# Altium footprint library Dual-In-Line Package.PcbLib: 124 footprints (part 2 of 8)
Each footprint in its own frame and in the unit in brackets; x right, y up, seen from the top. Pads: shape width x height; smd on the part's side, far side on the other; paste and mask are expansions set on the pad; w line width, h text height; cw(c..) or ccw(c..) is an arc to the next point about the centre after c.
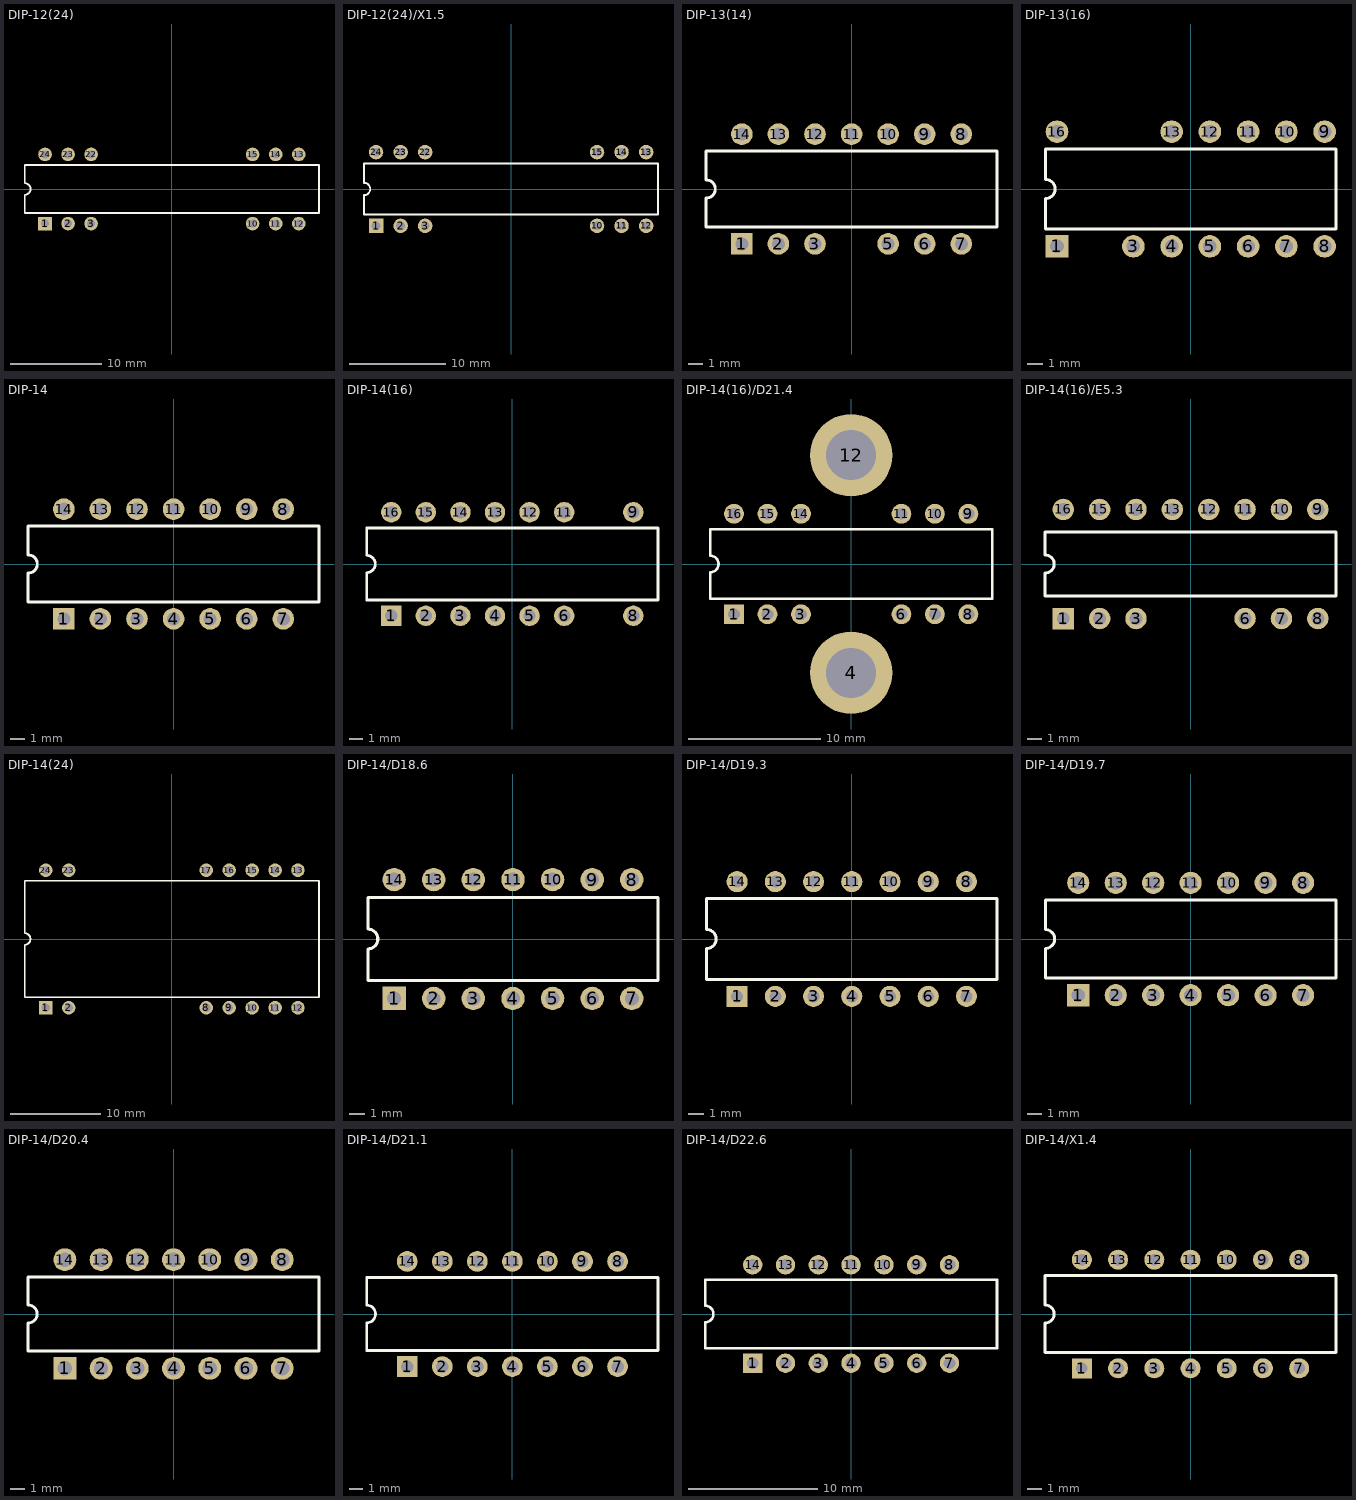
[diagram p1: the footprints below, top view; thin cyan lines are the x and y axes]

## DIP-12(24) [mm]
pads (12):
  rect 1.5x1.5 hole 0.9: 1(-13.97,-3.81)
  round 1.5 hole 0.9: 2(-11.43,-3.81) 3(-8.89,-3.81) 10(8.89,-3.81) 11(11.43,-3.81) 12(13.97,-3.81) 13(13.97,3.81) 14(11.43,3.81) 15(8.89,3.81) 22(-8.89,3.81) 23(-11.43,3.81) 24(-13.97,3.81)
Top Overlay:
  lines w0.2: -16.2,-2.65 16.2,-2.65 16.2,2.65 -16.2,2.65 -16.2,0.635 cw(c-16.2,0) -16.2,-0.635 -16.2,-2.65

## DIP-12(24)/X1.5 [mm]
pads (12):
  rect 1.5x1.5 hole 0.9: 1(-13.97,-3.81)
  round 1.5 hole 0.9: 2(-11.43,-3.81) 3(-8.89,-3.81) 10(8.89,-3.81) 11(11.43,-3.81) 12(13.97,-3.81) 13(13.97,3.81) 14(11.43,3.81) 15(8.89,3.81) 22(-8.89,3.81) 23(-11.43,3.81) 24(-13.97,3.81)
Top Overlay:
  lines w0.2: -15.2,-2.65 -15.2,-0.635 ccw(c-15.2,0) -15.2,0.635 -15.2,2.65 15.2,2.65 15.2,-2.65 -15.2,-2.65

## DIP-13(14) [mm]
pads (13):
  rect 1.5x1.5 hole 0.9: 1(-7.62,-3.81)
  round 1.5 hole 0.9: 2(-5.08,-3.81) 3(-2.54,-3.81) 5(2.54,-3.81) 6(5.08,-3.81) 7(7.62,-3.81) 8(7.62,3.81) 9(5.08,3.81) 10(2.54,3.81) 11(0,3.81) 12(-2.54,3.81) 13(-5.08,3.81) 14(-7.62,3.81)
Top Overlay:
  lines w0.2: -10.1,-2.65 10.1,-2.65 10.1,2.65 -10.1,2.65 -10.1,0.635 cw(c-10.1,0) -10.1,-0.635 -10.1,-2.65

## DIP-13(16) [mm]
pads (13):
  rect 1.5x1.5 hole 0.9: 1(-8.89,-3.81)
  round 1.5 hole 0.9: 3(-3.81,-3.81) 4(-1.27,-3.81) 5(1.27,-3.81) 6(3.81,-3.81) 7(6.35,-3.81) 8(8.89,-3.81) 9(8.89,3.81) 10(6.35,3.81) 11(3.81,3.81) 12(1.27,3.81) 13(-1.27,3.81) 16(-8.89,3.81)
Top Overlay:
  lines w0.2: -9.65,-2.65 9.65,-2.65 9.65,2.65 -9.65,2.65 -9.65,0.635 cw(c-9.65,0) -9.65,-0.635 -9.65,-2.65

## DIP-14 [mm]
pads (14):
  rect 1.5x1.5 hole 0.9: 1(-7.62,-3.81)
  round 1.5 hole 0.9: 2(-5.08,-3.81) 3(-2.54,-3.81) 4(0,-3.81) 5(2.54,-3.81) 6(5.08,-3.81) 7(7.62,-3.81) 8(7.62,3.81) 9(5.08,3.81) 10(2.54,3.81) 11(0,3.81) 12(-2.54,3.81) 13(-5.08,3.81) 14(-7.62,3.81)
Top Overlay:
  lines w0.2: -10.1,-2.65 10.1,-2.65 10.1,2.65 -10.1,2.65 -10.1,0.635 cw(c-10.1,0) -10.1,-0.635 -10.1,-2.65

## DIP-14(16) [mm]
pads (14):
  rect 1.5x1.5 hole 0.9: 1(-8.89,-3.81)
  round 1.5 hole 0.9: 2(-6.35,-3.81) 3(-3.81,-3.81) 4(-1.27,-3.81) 5(1.27,-3.81) 6(3.81,-3.81) 8(8.89,-3.81) 9(8.89,3.81) 11(3.81,3.81) 12(1.27,3.81) 13(-1.27,3.81) 14(-3.81,3.81) 15(-6.35,3.81) 16(-8.89,3.81)
Top Overlay:
  lines w0.2: -10.7,-2.65 10.7,-2.65 10.7,2.65 -10.7,2.65 -10.7,0.635 cw(c-10.7,0) -10.7,-0.635 -10.7,-2.65

## DIP-14(16)/D21.4 [mm]
pads (14):
  rect 1.5x1.5 hole 0.9: 1(-8.89,-3.81)
  round 1.5 hole 0.9: 2(-6.35,-3.81) 3(-3.81,-3.81) 6(3.81,-3.81) 7(6.35,-3.81) 8(8.89,-3.81) 9(8.89,3.81) 10(6.35,3.81) 11(3.81,3.81) 14(-3.81,3.81) 15(-6.35,3.81) 16(-8.89,3.81)
  round 6.25 hole 3.8: 4(-0.004,-8.255) 12(-0.004,8.255)
Top Overlay:
  lines w0.2: -10.7,-2.65 10.7,-2.65 10.7,2.65 -10.7,2.65 -10.7,0.635 cw(c-10.7,0) -10.7,-0.635 -10.7,-2.65

## DIP-14(16)/E5.3 [mm]
pads (14):
  rect 1.5x1.5 hole 0.9: 1(-8.89,-3.81)
  round 1.5 hole 0.9: 2(-6.35,-3.81) 3(-3.81,-3.81) 6(3.81,-3.81) 7(6.35,-3.81) 8(8.89,-3.81) 9(8.89,3.81) 10(6.35,3.81) 11(3.81,3.81) 12(1.27,3.81) 13(-1.27,3.81) 14(-3.81,3.81) 15(-6.35,3.81) 16(-8.89,3.81)
Top Overlay:
  lines w0.2: -10.16,-2.225 -10.16,-0.635 ccw(c-10.16,0) -10.16,0.635 -10.16,2.225 10.16,2.225 10.16,-2.225 -10.16,-2.225

## DIP-14(24) [mm]
pads (14):
  rect 1.5x1.5 hole 0.9: 1(-13.97,-7.62)
  round 1.5 hole 0.9: 2(-11.43,-7.62) 8(3.81,-7.62) 9(6.35,-7.62) 10(8.89,-7.62) 11(11.43,-7.62) 12(13.97,-7.62) 13(13.97,7.62) 14(11.43,7.62) 15(8.89,7.62) 16(6.35,7.62) 17(3.81,7.62) 23(-11.43,7.62) 24(-13.97,7.62)
Top Overlay:
  lines w0.2: -16.3,-6.45 16.3,-6.45 16.3,6.45 -16.3,6.45 -16.3,0.635 cw(c-16.3,0) -16.3,-0.635 -16.3,-6.45

## DIP-14/D18.6 [mm]
pads (14):
  rect 1.5x1.5 hole 0.9: 1(-7.62,-3.81)
  round 1.5 hole 0.9: 2(-5.08,-3.81) 3(-2.54,-3.81) 4(0,-3.81) 5(2.54,-3.81) 6(5.08,-3.81) 7(7.62,-3.81) 8(7.62,3.81) 9(5.08,3.81) 10(2.54,3.81) 11(0,3.81) 12(-2.54,3.81) 13(-5.08,3.81) 14(-7.62,3.81)
Top Overlay:
  lines w0.2: -9.3,-2.65 9.3,-2.65 9.3,2.65 -9.3,2.65 -9.3,0.635 cw(c-9.3,0) -9.3,-0.635 -9.3,-2.65

## DIP-14/D19.3 [mm]
pads (14):
  rect 1.4x1.4 hole 0.8: 1(-7.62,-3.81)
  round 1.4 hole 0.8: 2(-5.08,-3.81) 3(-2.54,-3.81) 4(0,-3.81) 5(2.54,-3.81) 6(5.08,-3.81) 7(7.62,-3.81) 8(7.62,3.81) 9(5.08,3.81) 10(2.54,3.81) 11(0,3.81) 12(-2.54,3.81) 13(-5.08,3.81) 14(-7.62,3.81)
Top Overlay:
  lines w0.2: -9.65,-2.7 -9.65,-0.635 ccw(c-9.65,0) -9.65,0.635 -9.65,2.7 9.65,2.7 9.65,-2.7 -9.65,-2.7

## DIP-14/D19.7 [mm]
pads (14):
  rect 1.5x1.5 hole 0.9: 1(-7.62,-3.81)
  round 1.5 hole 0.9: 2(-5.08,-3.81) 3(-2.54,-3.81) 4(0,-3.81) 5(2.54,-3.81) 6(5.08,-3.81) 7(7.62,-3.81) 8(7.62,3.81) 9(5.08,3.81) 10(2.54,3.81) 11(0,3.81) 12(-2.54,3.81) 13(-5.08,3.81) 14(-7.62,3.81)
Top Overlay:
  lines w0.2: -9.85,-2.65 -9.85,-0.635 ccw(c-9.85,0) -9.85,0.635 -9.85,2.65 9.85,2.65 9.85,-2.65 -9.85,-2.65

## DIP-14/D20.4 [mm]
pads (14):
  rect 1.6x1.6 hole 1: 1(-7.62,-3.81)
  round 1.6 hole 1: 2(-5.08,-3.81) 3(-2.54,-3.81) 4(0,-3.81) 5(2.54,-3.81) 6(5.08,-3.81) 7(7.62,-3.81) 8(7.62,3.81) 9(5.08,3.81) 10(2.54,3.81) 11(0,3.81) 12(-2.54,3.81) 13(-5.08,3.81) 14(-7.62,3.81)
Top Overlay:
  lines w0.2: -10.2,-2.6 -10.2,-0.635 ccw(c-10.2,0) -10.2,0.635 -10.2,2.6 10.2,2.6 10.2,-2.6 -10.2,-2.6

## DIP-14/D21.1 [mm]
pads (14):
  rect 1.5x1.5 hole 0.9: 1(-7.62,-3.81)
  round 1.5 hole 0.9: 2(-5.08,-3.81) 3(-2.54,-3.81) 4(0,-3.81) 5(2.54,-3.81) 6(5.08,-3.81) 7(7.62,-3.81) 8(7.62,3.81) 9(5.08,3.81) 10(2.54,3.81) 11(0,3.81) 12(-2.54,3.81) 13(-5.08,3.81) 14(-7.62,3.81)
Top Overlay:
  lines w0.2: -10.55,-2.65 10.55,-2.65 10.55,2.65 -10.55,2.65 -10.55,0.635 cw(c-10.55,0) -10.55,-0.635 -10.55,-2.65

## DIP-14/D22.6 [mm]
pads (14):
  rect 1.5x1.5 hole 0.9: 1(-7.62,-3.81)
  round 1.5 hole 0.9: 2(-5.08,-3.81) 3(-2.54,-3.81) 4(0,-3.81) 5(2.54,-3.81) 6(5.08,-3.81) 7(7.62,-3.81) 8(7.62,3.81) 9(5.08,3.81) 10(2.54,3.81) 11(0,3.81) 12(-2.54,3.81) 13(-5.08,3.81) 14(-7.62,3.81)
Top Overlay:
  lines w0.2: -11.3,-2.65 11.3,-2.65 11.3,2.65 -11.3,2.65 -11.3,0.635 cw(c-11.3,0) -11.3,-0.635 -11.3,-2.65

## DIP-14/X1.4 [mm]
pads (14):
  rect 1.4x1.4 hole 0.8: 1(-7.62,-3.81)
  round 1.4 hole 0.8: 2(-5.08,-3.81) 3(-2.54,-3.81) 4(0,-3.81) 5(2.54,-3.81) 6(5.08,-3.81) 7(7.62,-3.81) 8(7.62,3.81) 9(5.08,3.81) 10(2.54,3.81) 11(0,3.81) 12(-2.54,3.81) 13(-5.08,3.81) 14(-7.62,3.81)
Top Overlay:
  lines w0.2: -10.2,-2.7 10.2,-2.7 10.2,2.7 -10.2,2.7 -10.2,0.635 cw(c-10.2,0) -10.2,-0.635 -10.2,-2.7